# Altium schematic symbol library XH2.54.SchLib: 1 symbol
Pins are listed as number, name and electrical type; pins without a type are passive.

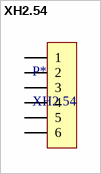
[diagram p0: symbol XH2.54]

## XH2.54
designator P*
footprint XH2.54-LI-6P (接插件，6P)
pins: 1, 2, 3, 4, 5, 6